# EAGLE library part CS4272 (library ld-components)
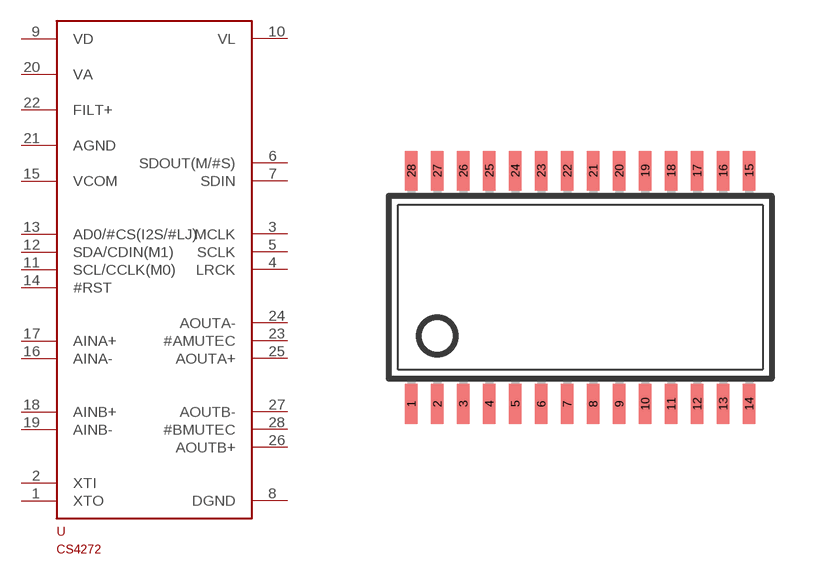
[diagram p1: symbol with the pads of TSSOP28; footprint TSSOP28]

Designator prefix -

## CS4272  [TSSOP28]
1  XTO  out
2  XTI  in
3  MCLK
4  LRCK
5  SCLK
6  SDOUT(M/#S)
7  SDIN  in
8  DGND  in
9  VD  pwr
10  VL  pwr
11  SCL/CCLK(M0)  in
12  SDA/CDIN(M1)
13  AD0/#CS(I2S/#LJ)  in
14  #RST  in
15  VCOM  out
16  AINA-  in
17  AINA+  in
18  AINB+  in
19  AINB-  in
20  VA  pwr
21  AGND  in
22  FILT+  out
23  #AMUTEC  out
24  AOUTA-  out
25  AOUTA+  out
26  AOUTB+  out
27  AOUTB-  out
28  #BMUTEC  out

## Footprint TSSOP28 (pad centres in mm)
Thin Shrink Small Outline Plastic 28 MAX3223-MAX3243.pdf
smd 0.305 x 0.991: 1 -4.225,-2.918; 2 -3.575,-2.918; 3 -2.925,-2.918; 4 -2.275,-2.918; 5 -1.625,-2.918; 6 -0.975,-2.918; 7 -0.325,-2.918; 8 0.325,-2.918; 9 0.975,-2.918; 10 1.625,-2.918; 11 2.275,-2.918; 12 2.925,-2.918; 13 3.575,-2.918; 14 4.225,-2.918; 15 4.225,2.918; 16 3.575,2.918; 17 2.925,2.918; 18 2.275,2.918; 19 1.625,2.918; 20 0.975,2.918; 21 0.325,2.918; 22 -0.325,2.918; 23 -0.975,2.918; 24 -1.625,2.918; 25 -2.275,2.918; 26 -2.925,2.918; 27 -3.575,2.918; 28 -4.225,2.918